# EAGLE library part LPC4300_LQFP144 (library LPC4300)
LQFP144 - SOT486-1 LQFP144: plastic low profile quad flat package; 144 leads; body 20 x 20 x 1.4 mm body + leads 22 x 22 mm Solderland (pads) 0.4 x 1.5 mm on corners (8 x) and 0.28 x 1.5 mm (136 x)
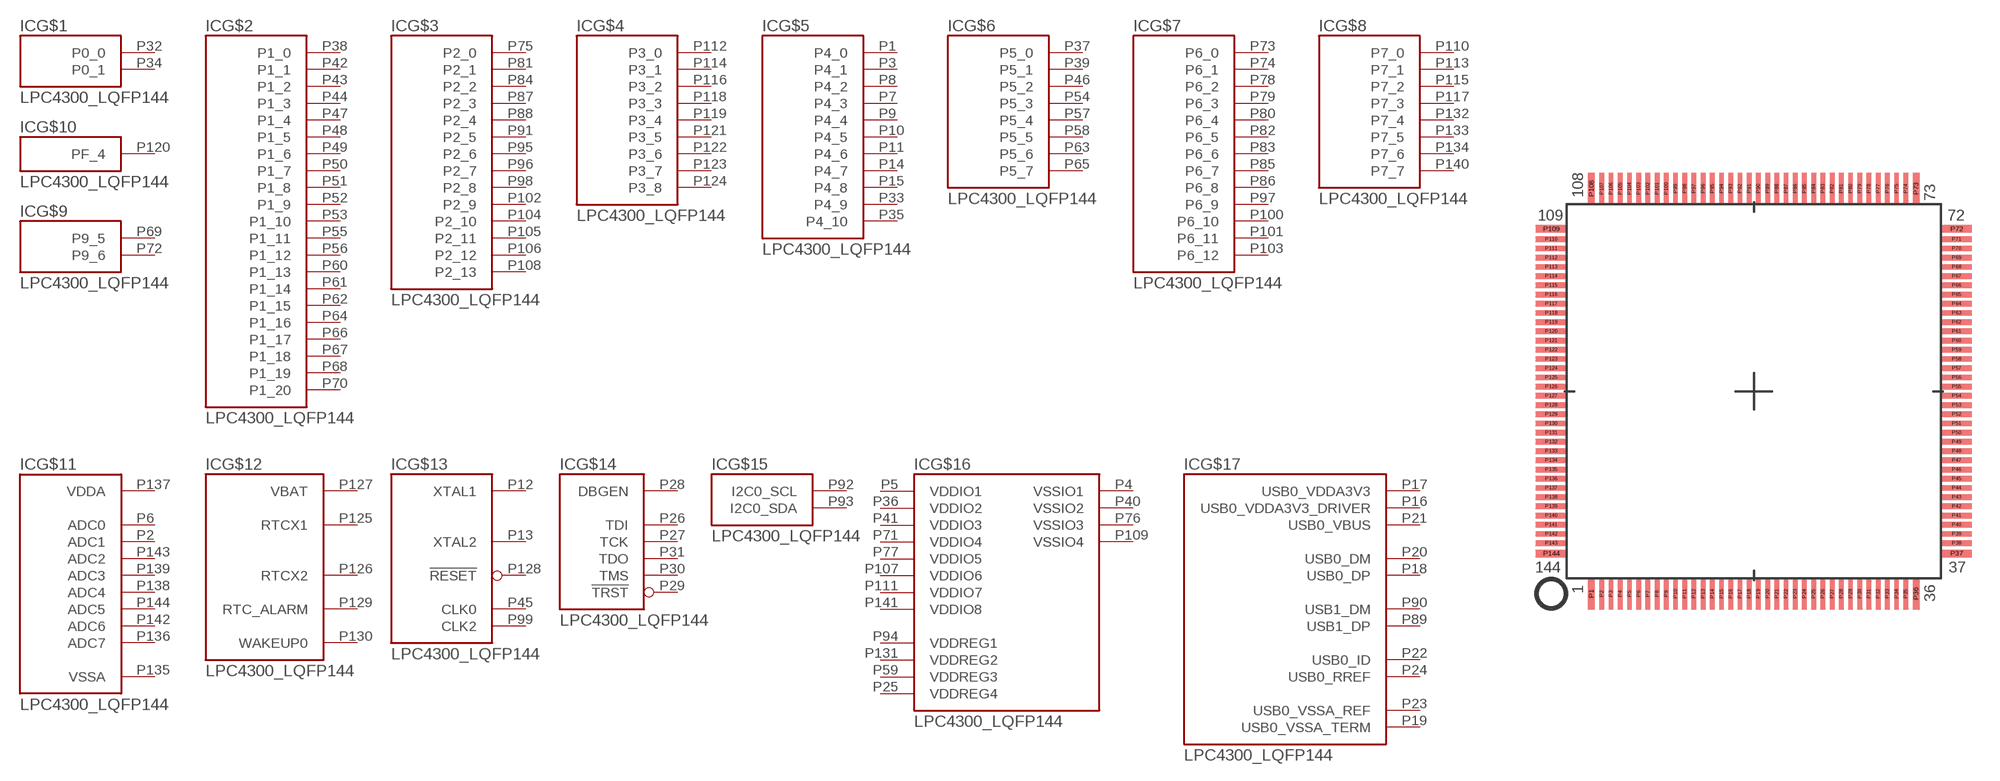
[diagram p4: symbol with the pads of LQFP144; footprint LQFP144]

Designator prefix IC; gates G$1=144_0_PORT0 G$2=144_1_PORT1 G$3=144_2_PORT2 G$4=144_3_PORT3 G$5=144_4_PORT4 G$6=144_5_PORT5 G$7=144_6_PORT6 G$8=144_7_PORT7 G$9=144_9_PORT9 G$10=144_15_PORTF G$11=144_16_ANA G$12=144_17_RTC G$13=144_18_CLK G$14=144_19_DBUG G$15=144_20_I2C G$16=144_21_SUP G$17=144_22_USB

## LPC4300_LQFP144  [LQFP144]
P1  G$5:P4_0
P2  G$11:ADC1  in
P3  G$5:P4_1
P4  G$16:VSSIO1  sup
P5  G$16:VDDIO1  sup
P6  G$11:ADC0  in
P7  G$5:P4_3
P8  G$5:P4_2
P9  G$5:P4_4
P10  G$5:P4_5
P11  G$5:P4_6
P12  G$13:XTAL1  in
P13  G$13:XTAL2  out
P14  G$5:P4_7
P15  G$5:P4_8
P16  G$17:USB0_VDDA3V3_DRIVER
P17  G$17:USB0_VDDA3V3
P18  G$17:USB0_DP
P19  G$17:USB0_VSSA_TERM
P20  G$17:USB0_DM
P21  G$17:USB0_VBUS
P22  G$17:USB0_ID
P23  G$17:USB0_VSSA_REF
P24  G$17:USB0_RREF
P25  G$16:VDDREG4  sup
P26  G$14:TDI
P27  G$14:TCK
P28  G$14:DBGEN  in
P29  G$14:!TRST
P30  G$14:TMS
P31  G$14:TDO
P32  G$1:P0_0
P33  G$5:P4_9
P34  G$1:P0_1
P35  G$5:P4_10
P36  G$16:VDDIO2  sup
P37  G$6:P5_0
P38  G$2:P1_0
P39  G$6:P5_1
P40  G$16:VSSIO2  sup
P41  G$16:VDDIO3  sup
P42  G$2:P1_1
P43  G$2:P1_2
P44  G$2:P1_3
P45  G$13:CLK0  out
P46  G$6:P5_2
P47  G$2:P1_4
P48  G$2:P1_5
P49  G$2:P1_6
P50  G$2:P1_7
P51  G$2:P1_8
P52  G$2:P1_9
P53  G$2:P1_10
P54  G$6:P5_3
P55  G$2:P1_11
P56  G$2:P1_12
P57  G$6:P5_4
P58  G$6:P5_5
P59  G$16:VDDREG3  sup
P60  G$2:P1_13
P61  G$2:P1_14
P62  G$2:P1_15
P63  G$6:P5_6
P64  G$2:P1_16
P65  G$6:P5_7
P66  G$2:P1_17
P67  G$2:P1_18
P68  G$2:P1_19
P69  G$9:P9_5
P70  G$2:P1_20
P71  G$16:VDDIO4  sup
P72  G$9:P9_6
P73  G$7:P6_0
P74  G$7:P6_1
P75  G$3:P2_0
P76  G$16:VSSIO3  sup
P77  G$16:VDDIO5  sup
P78  G$7:P6_2
P79  G$7:P6_3
P80  G$7:P6_4
P81  G$3:P2_1
P82  G$7:P6_5
P83  G$7:P6_6
P84  G$3:P2_2
P85  G$7:P6_7
P86  G$7:P6_8
P87  G$3:P2_3
P88  G$3:P2_4
P89  G$17:USB1_DP
P90  G$17:USB1_DM
P91  G$3:P2_5
P92  G$15:I2C0_SCL
P93  G$15:I2C0_SDA
P94  G$16:VDDREG1  sup
P95  G$3:P2_6
P96  G$3:P2_7
P97  G$7:P6_9
P98  G$3:P2_8
P99  G$13:CLK2  out
P100  G$7:P6_10
P101  G$7:P6_11
P102  G$3:P2_9
P103  G$7:P6_12
P104  G$3:P2_10
P105  G$3:P2_11
P106  G$3:P2_12
P107  G$16:VDDIO6  sup
P108  G$3:P2_13
P109  G$16:VSSIO4  sup
P110  G$8:P7_0
P111  G$16:VDDIO7  sup
P112  G$4:P3_0
P113  G$8:P7_1
P114  G$4:P3_1
P115  G$8:P7_2
P116  G$4:P3_2
P117  G$8:P7_3
P118  G$4:P3_3
P119  G$4:P3_4
P120  G$10:PF_4
P121  G$4:P3_5
P122  G$4:P3_6
P123  G$4:P3_7
P124  G$4:P3_8
P125  G$12:RTCX1  in
P126  G$12:RTCX2  out
P127  G$12:VBAT  pwr
P128  G$13:!RESET  in
P129  G$12:RTC_ALARM  out
P130  G$12:WAKEUP0  in
P131  G$16:VDDREG2  sup
P132  G$8:P7_4
P133  G$8:P7_5
P134  G$8:P7_6
P135  G$11:VSSA  sup
P136  G$11:ADC7  in
P137  G$11:VDDA  sup
P138  G$11:ADC4  in
P139  G$11:ADC3  in
P140  G$8:P7_7
P141  G$16:VDDIO8  sup
P142  G$11:ADC6  in
P143  G$11:ADC2  in
P144  G$11:ADC5  in

## Footprint LQFP144 (pad centres in mm)
LQFP144 - SOT486-1 LQFP144: plastic low profile quad flat package; 144 leads; body 20 x 20 x 1.4 mm body + leads 22 x 22 mm Solderland (pads) 0.4 x 1.5 mm on corners (8 x) and 0.28 x 1.5 mm (136 x)
smd 0.4 x 1.7: P1 -8.81,-11; P36 8.81,-11; P73 8.81,11; P108 -8.81,11
smd 0.28 x 1.7: P2 -8.25,-11; P3 -7.75,-11; P4 -7.25,-11; P5 -6.75,-11; P6 -6.25,-11; P7 -5.75,-11; P8 -5.25,-11; P9 -4.75,-11; P10 -4.25,-11; P11 -3.75,-11; P12 -3.25,-11; P13 -2.75,-11; P14 -2.25,-11; P15 -1.75,-11; P16 -1.25,-11; P17 -0.75,-11; P18 -0.25,-11; P19 0.25,-11; P20 0.75,-11; P21 1.25,-11; P22 1.75,-11; P23 2.25,-11; P24 2.75,-11; P25 3.25,-11; P26 3.75,-11; P27 4.25,-11; P28 4.75,-11; P29 5.25,-11; P30 5.75,-11; P31 6.25,-11; P32 6.75,-11; P33 7.25,-11; P34 7.75,-11; P35 8.25,-11; P74 8.25,11; P75 7.75,11; P76 7.25,11; P77 6.75,11; P78 6.25,11; P79 5.75,11; P80 5.25,11; P81 4.75,11; P82 4.25,11; P83 3.75,11; P84 3.25,11; P85 2.75,11; P86 2.25,11; P87 1.75,11; P88 1.25,11; P89 0.75,11; P90 0.25,11; P91 -0.25,11; P92 -0.75,11; P93 -1.25,11; P94 -1.75,11; P95 -2.25,11; P96 -2.75,11; P97 -3.25,11; P98 -3.75,11; P99 -4.25,11; P100 -4.75,11; P101 -5.25,11; P102 -5.75,11; P103 -6.25,11; P104 -6.75,11; P105 -7.25,11; P106 -7.75,11; P107 -8.25,11
smd 1.7 x 0.4: P37 11,-8.81; P72 11,8.81; P109 -11,8.81; P144 -11,-8.81
smd 1.7 x 0.28: P38 11,-8.25; P39 11,-7.75; P40 11,-7.25; P41 11,-6.75; P42 11,-6.25; P43 11,-5.75; P44 11,-5.25; P45 11,-4.75; P46 11,-4.25; P47 11,-3.75; P48 11,-3.25; P49 11,-2.75; P50 11,-2.25; P51 11,-1.75; P52 11,-1.25; P53 11,-0.75; P54 11,-0.25; P55 11,0.25; P56 11,0.75; P57 11,1.25; P58 11,1.75; P59 11,2.25; P60 11,2.75; P61 11,3.25; P62 11,3.75; P63 11,4.25; P64 11,4.75; P65 11,5.25; P66 11,5.75; P67 11,6.25; P68 11,6.75; P69 11,7.25; P70 11,7.75; P71 11,8.25; P110 -11,8.25; P111 -11,7.75; P112 -11,7.25; P113 -11,6.75; P114 -11,6.25; P115 -11,5.75; P116 -11,5.25; P117 -11,4.75; P118 -11,4.25; P119 -11,3.75; P120 -11,3.25; P121 -11,2.75; P122 -11,2.25; P123 -11,1.75; P124 -11,1.25; P125 -11,0.75; P126 -11,0.25; P127 -11,-0.25; P128 -11,-0.75; P129 -11,-1.25; P130 -11,-1.75; P131 -11,-2.25; P132 -11,-2.75; P133 -11,-3.25; P134 -11,-3.75; P135 -11,-4.25; P136 -11,-4.75; P137 -11,-5.25; P138 -11,-5.75; P139 -11,-6.25; P140 -11,-6.75; P141 -11,-7.25; P142 -11,-7.75; P143 -11,-8.25